# Altium schematic symbol library Rohm Semiconductors.SchLib: 5 symbols
Pins are listed as number, name and electrical type; pins without a type are passive.

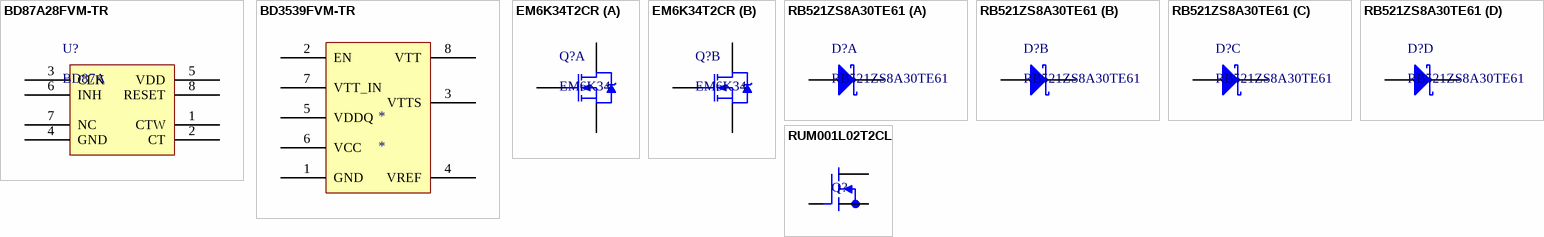
[diagram p0: symbols BD87A28FVM-TR to RUM001L02T2CL]

## BD87A28FVM-TR
designator U?, comment BD87A
pins: 1 CTW, 2 CT, 3 CLK, 4 GND, 5 VDD, 6 INH, 7 NC, 8 RESET

## BD3539FVM-TR
designator *
pins: 1 GND, 2 EN, 3 VTTS, 4 VREF, 5 VDDQ, 6 VCC, 7 VTT_IN, 8 VTT

## EM6K34T2CR
designator Q?, comment EM6K34
part A pins: 1 G1, 2 S1, 6 D1
part B pins: 3 D2, 4 G2, 5 S2

## RB521ZS8A30TE61
designator D?
part A pins: 1 A1, 8 K1
part B pins: 2 A2, 7 K2
part C pins: 3 A3, 6 K3
part D pins: 4 A4, 5 K4

## RUM001L02T2CL
designator Q?  (value not drawn)
MOSFET N-CH 20V 0.1A VMT3; Manufacturer: Rohm; Manufacturer Part Number: RUM001L02T2CL; Rds On Max: 3.5R; Input Capacitance: 7.1pF; Continuous Drain Current (ID): 100mA; Max Power Dissipation: 150mW; Number of Channels: 1; Drain to Source Resistance: 2.5R; Gate to Source Voltage (Vgs): 8V; Fall Time: 38ns; Rise Time: 4ns; Turn-Off Delay Time: 20ns; Turn-On Delay Time: 5ns; FET Type: 1 N-Channel; Supplier 1: Digi-Key; Supplier Part Number 1: RUM001L02T2CLCT-ND; Stock 1: 95132; Pricing 1: 1 = 0.34000, 10 = 0.27700, 100 = 0.14680, 500 = 0.09656, 1000 = 0.06566, 2500 = 0.05922 (USD); RoHS: Yes; Mount: Surface Mount; Case/Package: SOT-723; Number of Pins: 3; Contact Plating: Tin; Min Operating Temperature: -55°C; Max Operating Temperature: 150°C; Package Quantity: 1; Packaging: Tape and Reel; Drain to Source Voltage (Vdss): 20V; Drain to Source Breakdown Voltage: 20V; Lead Free: Lead Free; ComponentLink1URL: https://datasheet.ciiva.com/29755/rum001l02-29755909.pdf?src-supplier=Digi-Key; ComponentLink1Description: https://datasheet.ciiva.com/29755/rum001l02-29755909.pdf?src-supplier=Digi-Key
footprint SOTFL40P120X55-3N (SOTFL, 3-Leads, Body 1.20x1.20mm, Pitch 0.40mm, IPC Medium Density)
pins: 1 G, 2 S, 3 D